# Altium schematic symbol library Connectors Rectangular 2.54 PL.SchLib: 15 symbols
Pins are listed as number, name and electrical type; pins without a type are passive.

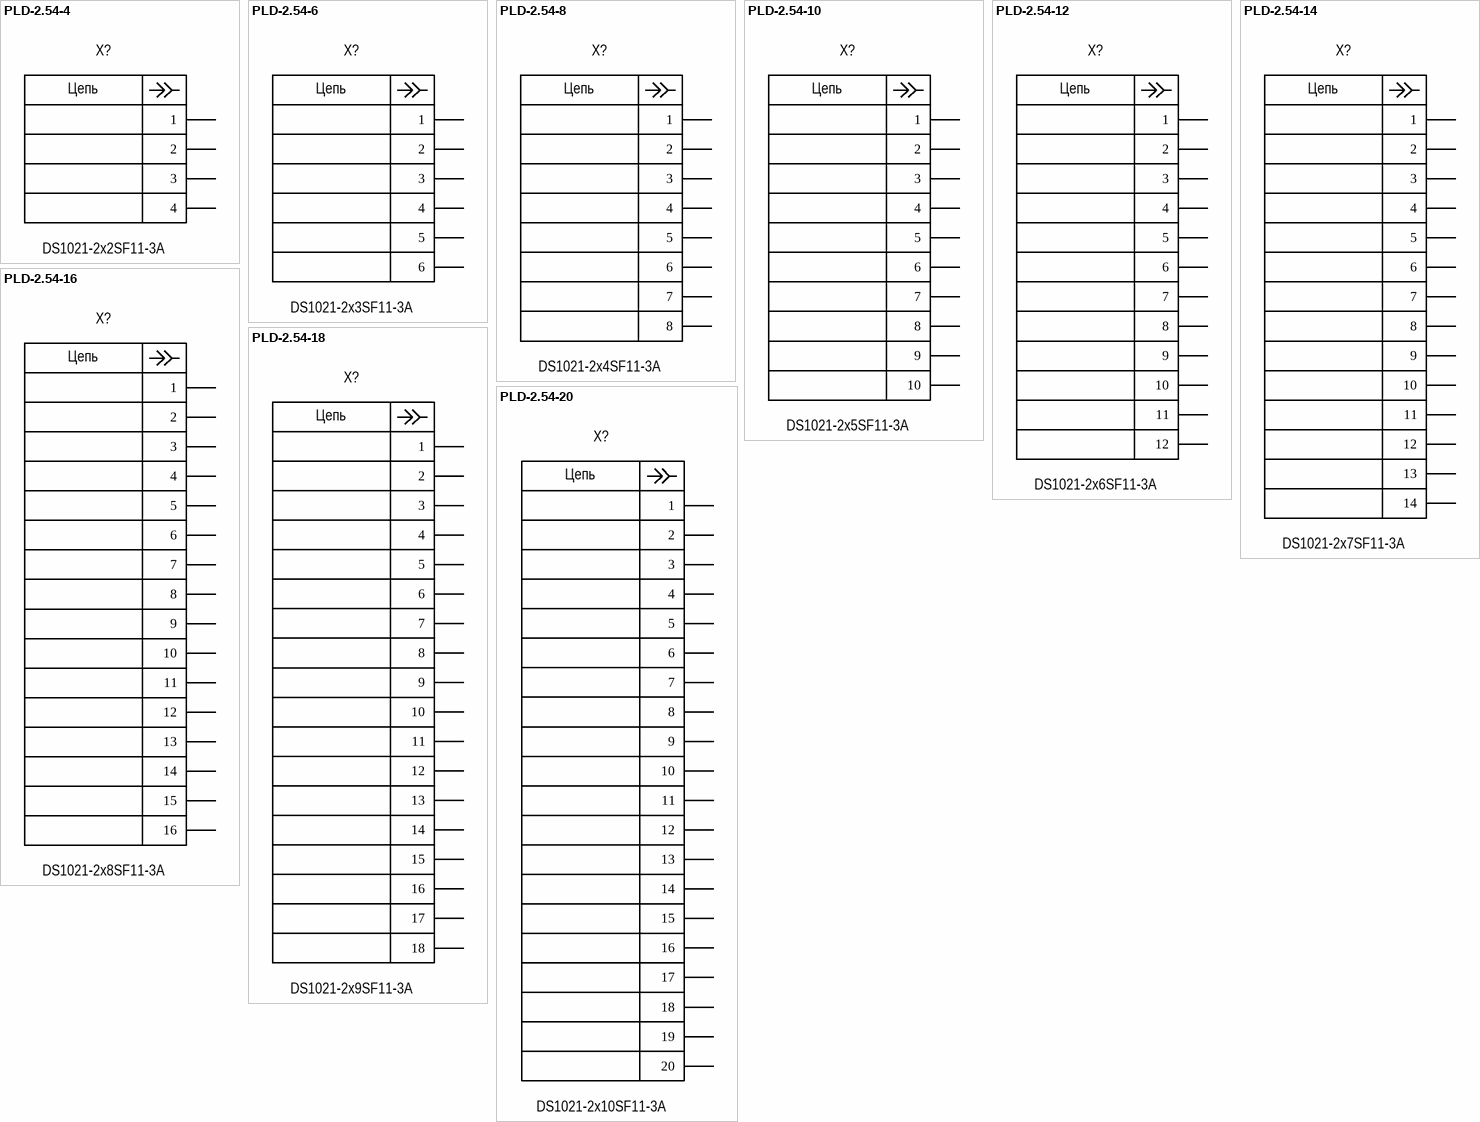
[diagram p0: symbols PLD-2.54-4 to PLD-2.54-20]

## PLD-2.54-4
designator X?, comment DS1021-2x2SF11-3A
Connector Rectangular 2.54 M 4P2R Board PLD; Manufacturer: Connfly; Group: Mechanical; Pitch: 2.54mm; Positions: 4; Rows: 2; Current rating: 3.0A; Voltage rating: 250V; Placing: Vertical; Shrouding: Unshrouded; Connector type: Header; Dimension: 5.08mm x 5.08mm; Operating temperature: -40°C +105°C; Mounting type: Through hole; Package: PLD-2.54-4; Part name: DS1021-2x2SF11-3A; Height: 8.54mm; Insulation color: Black; Component: Connector Rectangular; Contact type: Male pin; Fastening type: Push-pull; Series: PLD; Connector style: Board; Series name: PLD; System: Connector
footprint PLD-2.54-4
pins: 1, 2, 3, 4
text: Цепь

## PLD-2.54-6
designator X?, comment DS1021-2x3SF11-3A
Connector Rectangular 2.54 M 6P2R Board PLD; Manufacturer: Connfly; Group: Mechanical; Pitch: 2.54mm; Positions: 6; Rows: 2; Current rating: 3.0A; Voltage rating: 250V; Placing: Vertical; Shrouding: Unshrouded; Connector type: Header; Dimension: 5.08mm x 7.62mm; Operating temperature: -40°C +105°C; Mounting type: Through hole; Package: PLD-2.54-6; Part name: DS1021-2x3SF11-3A; Height: 8.54mm; Insulation color: Black; Component: Connector Rectangular; Contact type: Male pin; Fastening type: Push-pull; Series: PLD; Connector style: Board; Series name: PLD; System: Connector
footprint PLD-2.54-6
pins: 1, 2, 3, 4, 5, 6
text: Цепь

## PLD-2.54-8
designator X?, comment DS1021-2x4SF11-3A
Connector Rectangular 2.54 M 8P2R Board PLD; Manufacturer: Connfly; Group: Mechanical; Pitch: 2.54mm; Positions: 8; Rows: 2; Current rating: 3.0A; Voltage rating: 250V; Placing: Vertical; Shrouding: Unshrouded; Connector type: Header; Dimension: 5.08mm x 10.16mm; Operating temperature: -40°C +105°C; Mounting type: Through hole; Package: PLD-2.54-8; Part name: DS1021-2x4SF11-3A; Height: 8.54mm; Insulation color: Black; Component: Connector Rectangular; Contact type: Male pin; Fastening type: Push-pull; Series: PLD; Connector style: Board; Series name: PLD; System: Connector
footprint PLD-2.54-8
pins: 1, 2, 3, 4, 5, 6, 7, 8
text: Цепь

## PLD-2.54-10
designator X?, comment DS1021-2x5SF11-3A
Connector Rectangular 2.54 M 10P2R Board PLD; Manufacturer: Connfly; Group: Mechanical; Pitch: 2.54mm; Positions: 10; Rows: 2; Current rating: 3.0A; Voltage rating: 250V; Placing: Vertical; Shrouding: Unshrouded; Connector type: Header; Dimension: 5.08mm x 12.70mm; Operating temperature: -40°C +105°C; Mounting type: Through hole; Package: PLD-2.54-10; Part name: DS1021-2x5SF11-3A; Height: 8.54mm; Insulation color: Black; Component: Connector Rectangular; Contact type: Male pin; Fastening type: Push-pull; Series: PLD; Connector style: Board; Series name: PLD; System: Connector
footprint PLD-2.54-10
pins: 1, 2, 3, 4, 5, 6, 7, 8, 9, 10
text: Цепь

## PLD-2.54-12
designator X?, comment DS1021-2x6SF11-3A
Connector Rectangular 2.54 M 12P2R Board PLD; Manufacturer: Connfly; Group: Mechanical; Pitch: 2.54mm; Positions: 12; Rows: 2; Current rating: 3.0A; Voltage rating: 250V; Placing: Vertical; Shrouding: Unshrouded; Connector type: Header; Dimension: 5.08mm x 15.25mm; Operating temperature: -40°C +105°C; Mounting type: Through hole; Package: PLD-2.54-12; Part name: DS1021-2x6SF11-3A; Height: 8.54mm; Insulation color: Black; Component: Connector Rectangular; Contact type: Male pin; Fastening type: Push-pull; Series: PLD; Connector style: Board; Series name: PLD; System: Connector
footprint PLD-2.54-12
pins: 1, 2, 3, 4, 5, 6, 7, 8, 9, 10, 11, 12
text: Цепь

## PLD-2.54-14
designator X?, comment DS1021-2x7SF11-3A
Connector Rectangular 2.54 M 14P2R Board PLD; Manufacturer: Connfly; Group: Mechanical; Pitch: 2.54mm; Positions: 14; Rows: 2; Current rating: 3.0A; Voltage rating: 250V; Placing: Vertical; Shrouding: Unshrouded; Connector type: Header; Dimension: 5.08mm x 17.78mm; Operating temperature: -40°C +105°C; Mounting type: Through hole; Package: PLD-2.54-14; Part name: DS1021-2x7SF11-3A; Height: 8.54mm; Insulation color: Black; Component: Connector Rectangular; Contact type: Male pin; Fastening type: Push-pull; Series: PLD; Connector style: Board; Series name: PLD; System: Connector
footprint PLD-2.54-14
pins: 1, 2, 3, 4, 5, 6, 7, 8, 9, 10, 11, 12, 13, 14
text: Цепь

## PLD-2.54-16
designator X?, comment DS1021-2x8SF11-3A
Connector Rectangular 2.54 M 16P2R Board PLD; Manufacturer: Connfly; Group: Mechanical; Pitch: 2.54mm; Positions: 16; Rows: 2; Current rating: 3.0A; Voltage rating: 250V; Placing: Vertical; Shrouding: Unshrouded; Connector type: Header; Dimension: 5.08mm x 20.32mm; Operating temperature: -40°C +105°C; Mounting type: Through hole; Package: PLD-2.54-16; Part name: DS1021-2x8SF11-3A; Height: 8.54mm; Insulation color: Black; Component: Connector Rectangular; Contact type: Male pin; Fastening type: Push-pull; Series: PLD; Connector style: Board; Series name: PLD; System: Connector
footprint PLD-2.54-16
pins: 1, 2, 3, 4, 5, 6, 7, 8, 9, 10, 11, 12, 13, 14, 15, 16
text: Цепь

## PLD-2.54-18
designator X?, comment DS1021-2x9SF11-3A
Connector Rectangular 2.54 M 18P2R Board PLD; Manufacturer: Connfly; Group: Mechanical; Pitch: 2.54mm; Positions: 18; Rows: 2; Current rating: 3.0A; Voltage rating: 250V; Placing: Vertical; Shrouding: Unshrouded; Connector type: Header; Dimension: 5.08mm x 22.86mm; Operating temperature: -40°C +105°C; Mounting type: Through hole; Package: PLD-2.54-18; Part name: DS1021-2x9SF11-3A; Height: 8.54mm; Insulation color: Black; Component: Connector Rectangular; Contact type: Male pin; Fastening type: Push-pull; Series: PLD; Connector style: Board; Series name: PLD; System: Connector
footprint PLD-2.54-18
pins: 1, 2, 3, 4, 5, 6, 7, 8, 9, 10, 11, 12, 13, 14, 15, 16, 17, 18
text: Цепь

## PLD-2.54-20
designator X?, comment DS1021-2x10SF11-3A
Connector Rectangular 2.54 M 20P2R Board PLD; Manufacturer: Connfly; Group: Mechanical; Pitch: 2.54mm; Positions: 20; Rows: 2; Current rating: 3.0A; Voltage rating: 250V; Placing: Vertical; Shrouding: Unshrouded; Connector type: Header; Dimension: 5.08mm x 25.40mm; Operating temperature: -40°C +105°C; Mounting type: Through hole; Package: PLD-2.54-20; Part name: DS1021-2x10SF11-3A; Height: 8.54mm; Insulation color: Black; Component: Connector Rectangular; Contact type: Male pin; Fastening type: Push-pull; Series: PLD; Connector style: Board; Series name: PLD; System: Connector
footprint PLD-2.54-20
pins: 1, 2, 3, 4, 5, 6, 7, 8, 9, 10, 11, 12, 13, 14, 15, 16, 17, 18, 19, 20
text: Цепь

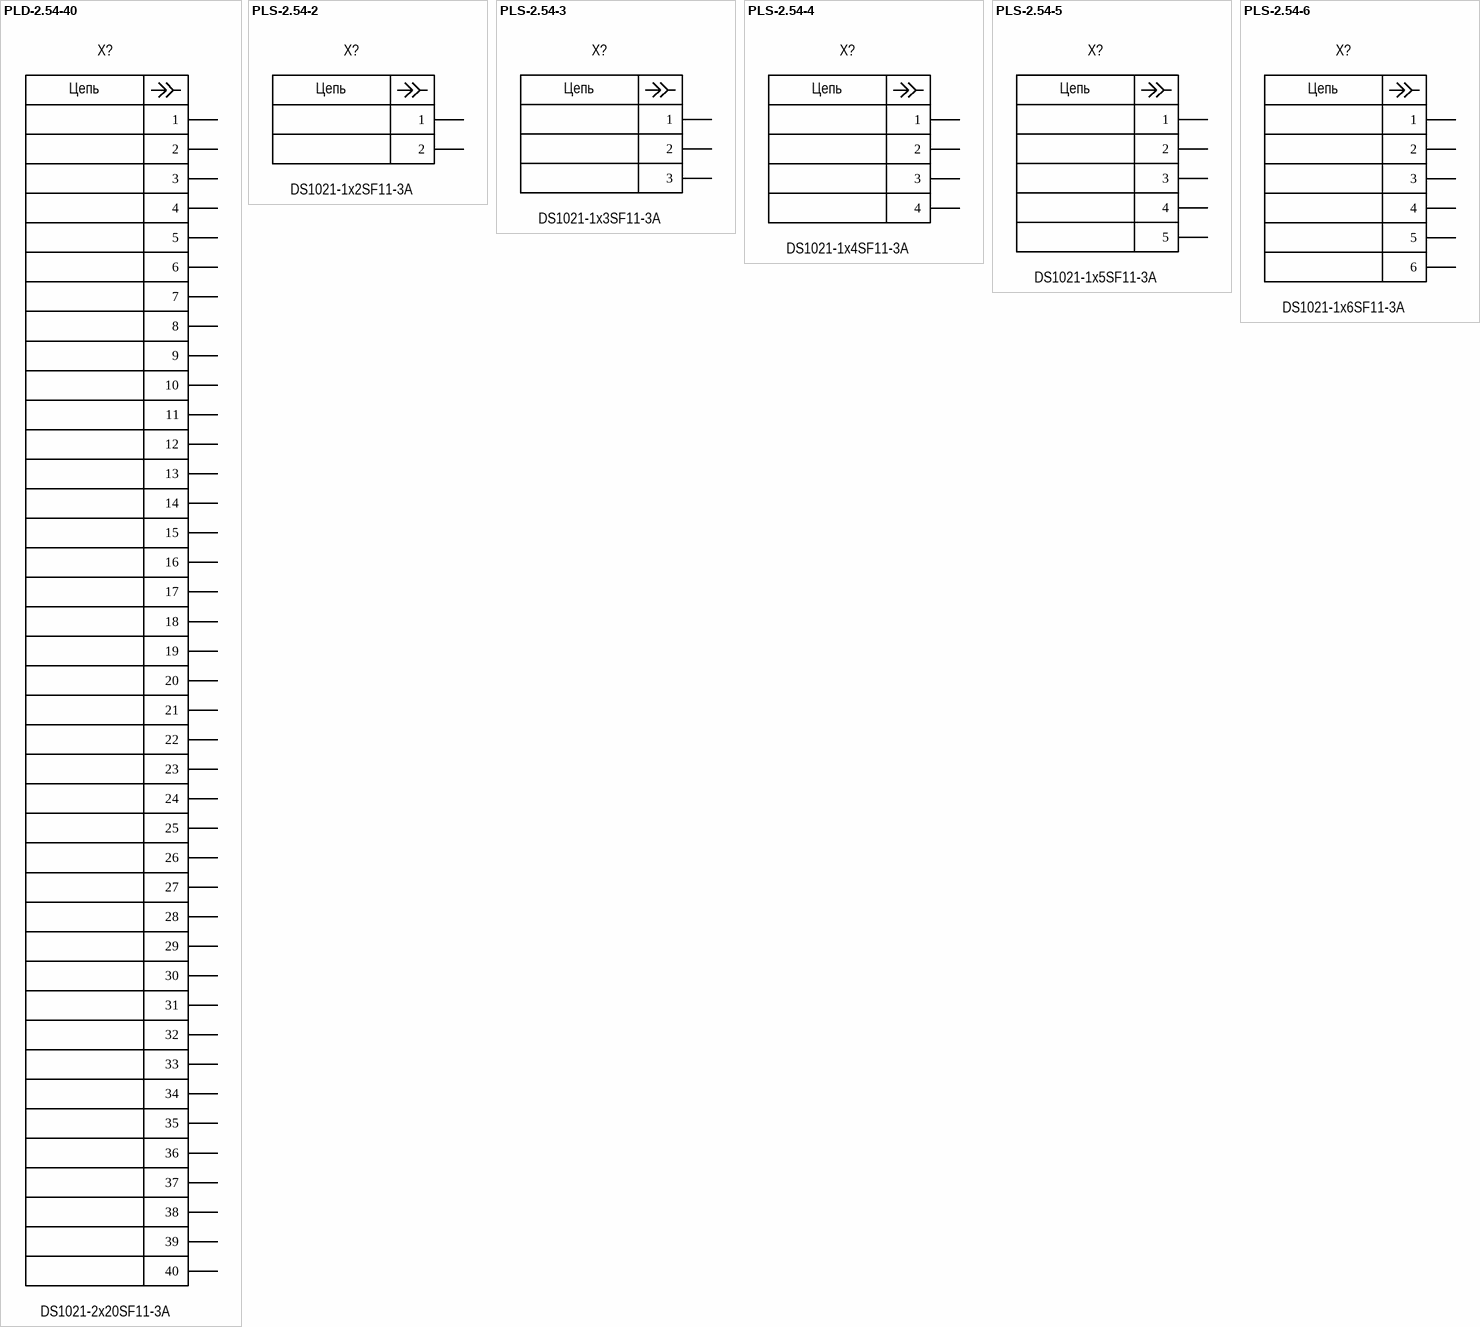
[diagram p1: symbols PLD-2.54-40 to PLS-2.54-6]

## PLD-2.54-40
designator X?, comment DS1021-2x20SF11-3A
Connector Rectangular 2.54 M 40P2R Board PLD; Manufacturer: Connfly; Group: Mechanical; Pitch: 2.54mm; Positions: 40; Rows: 2; Current rating: 3.0A; Voltage rating: 250V; Placing: Vertical; Shrouding: Unshrouded; Connector type: Header; Dimension: 5.08mm x 50.80mm; Operating temperature: -40°C +105°C; Mounting type: Through hole; Package: PLD-2.54-40; Part name: DS1021-2x20SF11-3A; Height: 8.54mm; Insulation color: Black; Component: Connector Rectangular; Contact type: Male pin; Fastening type: Push-pull; Series: PLD; Connector style: Board; Series name: PLD; System: Connector
footprint PLD-2.54-40 (Footprint not found)
pins: 1, 2, 3, 4, 5, 6, 7, 8, 9, 10, 11, 12, 13, 14, 15, 16, 17, 18, 19, 20, 21, 22, 23, 24, 25, 26, 27, 28, 29, 30, 31, 32, 33, 34, 35, 36, 37, 38, 39, 40
text: Цепь

## PLS-2.54-2
designator X?, comment DS1021-1x2SF11-3A
Connector Rectangular 2.54 M 2P Board PLS; Manufacturer: Connfly; Group: Mechanical; Pitch: 2.54mm; Positions: 2; Rows: 1; Current rating: 3.0A; Voltage rating: 250V; Placing: Vertical; Shrouding: Unshrouded; Connector type: Header; Dimension: 2.54mm x 5.08mm; Operating temperature: -40°C +105°C; Mounting type: Through hole; Package: PLS-2.54-2; Part name: DS1021-1x2SF11-3A; Height: 8.54mm; Insulation color: Black; Component: Connector Rectangular; Contact type: Male pin; Fastening type: Push-pull; Series: PLS; Connector style: Board; Series name: PLS; System: Connector
footprint PLS-2.54-2 (Footprint not found)
pins: 1, 2
text: Цепь

## PLS-2.54-3
designator X?, comment DS1021-1x3SF11-3A
Connector Rectangular 2.54 M 3P Board PLS; Manufacturer: Connfly; Group: Mechanical; Pitch: 2.54mm; Positions: 3; Rows: 1; Current rating: 3.0A; Voltage rating: 250V; Placing: Vertical; Shrouding: Unshrouded; Connector type: Header; Dimension: 2.54mm x 7.62mm; Operating temperature: -40°C +105°C; Mounting type: Through hole; Package: PLS-2.54-3; Part name: DS1021-1x3SF11-3A; Height: 8.54mm; Insulation color: Black; Component: Connector Rectangular; Contact type: Male pin; Fastening type: Push-pull; Series: PLS; Connector style: Board; Series name: PLS; System: Connector
footprint PLS-2.54-3
pins: 1, 2, 3
text: Цепь

## PLS-2.54-4
designator X?, comment DS1021-1x4SF11-3A
Connector Rectangular 2.54 M 4P Board PLS; Manufacturer: Connfly; Group: Mechanical; Pitch: 2.54mm; Positions: 4; Rows: 1; Current rating: 3.0A; Voltage rating: 250V; Placing: Vertical; Shrouding: Unshrouded; Connector type: Header; Dimension: 2.54mm x 10.16mm; Operating temperature: -40°C +105°C; Mounting type: Through hole; Package: PLS-2.54-4; Part name: DS1021-1x4SF11-3A; Height: 8.54mm; Insulation color: Black; Component: Connector Rectangular; Contact type: Male pin; Fastening type: Push-pull; Series: PLS; Connector style: Board; Series name: PLS; System: Connector
footprint PLS-2.54-4
pins: 1, 2, 3, 4
text: Цепь

## PLS-2.54-5
designator X?, comment DS1021-1x5SF11-3A
Connector Rectangular 2.54 M 5P Board PLS; Manufacturer: Connfly; Group: Mechanical; Pitch: 2.54mm; Positions: 5; Rows: 1; Current rating: 3.0A; Voltage rating: 250V; Placing: Vertical; Shrouding: Unshrouded; Connector type: Header; Dimension: 2.54mm x 12.70mm; Operating temperature: -40°C +105°C; Mounting type: Through hole; Package: PLS-2.54-5; Part name: DS1021-1x5SF11-3A; Height: 8.54mm; Insulation color: Black; Component: Connector Rectangular; Contact type: Male pin; Fastening type: Push-pull; Series: PLS; Connector style: Board; Series name: PLS; System: Connector
footprint PLS-2.54-5
pins: 1, 2, 3, 4, 5
text: Цепь

## PLS-2.54-6
designator X?, comment DS1021-1x6SF11-3A
Connector Rectangular 2.54 M 6P Board PLS; Manufacturer: Connfly; Group: Mechanical; Pitch: 2.54mm; Positions: 6; Rows: 1; Current rating: 3.0A; Voltage rating: 250V; Placing: Vertical; Shrouding: Unshrouded; Connector type: Header; Dimension: 2.54mm x 15.24mm; Operating temperature: -40°C +105°C; Mounting type: Through hole; Package: PLS-2.54-6; Part name: DS1021-1x6SF11-3A; Height: 8.54mm; Insulation color: Black; Component: Connector Rectangular; Contact type: Male pin; Fastening type: Push-pull; Series: PLS; Connector style: Board; Series name: PLS; System: Connector
footprint PLS-2.54-6
pins: 1, 2, 3, 4, 5, 6
text: Цепь